# Altium schematic symbol library IC-Cmedia.SchLib: 2 symbols
Pins are listed as number, name and electrical type; pins without a type are passive.

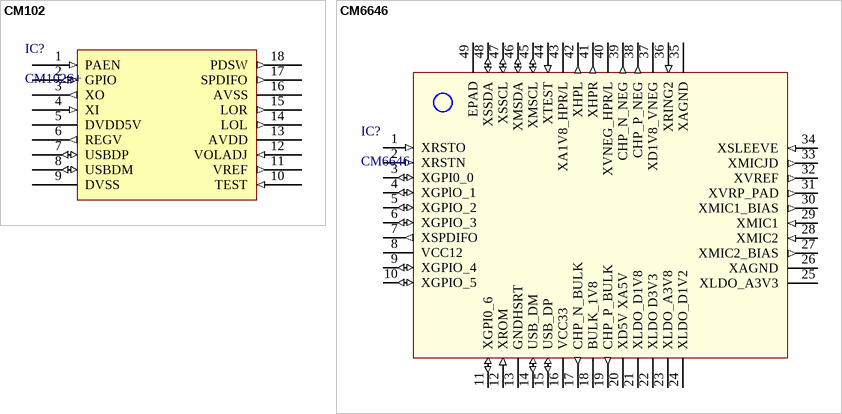
[diagram p0: symbols CM102 to CM6646]

## CM102
designator IC?, comment CM102S+
USB声卡芯片; Manufacturer_Name: Cmedia; Manufacturer_Part_Number: CM102S+; ComponentLink1Description: TAOBAO; ComponentLink1URL: https://item.taobao.com/item.htm?spm=a1z10.5-c-s.w4002-18550259408.55.145a5374dSFLyY&id=559107544758; ComponentLink2Description: PDF; ComponentLink2URL: https://www.cmedia.com.tw/storage/upload/ck_files/en_article_file_20201223165802_ekq%20(1)(1).pdf
footprint SOP18W
pins: 1 PAEN (in), 2 GPIO (io) "Power Amplifier Control Input, Connect to a Switch or Pull-High in", 3 XO (out), 4 XI (in), 5 DVDD5V (power), 6 REGV (out) "egulator output 3.3v", 7 USBDP (io), 8 USBDM (io), 9 DVSS (power), 10 TEST (in), 11 VREF (out), 12 VOLADJ (in), 13 AVDD (power), 14 LOL (out), 15 LOR (out), 16 AVSS (power), 17 SPDIFO (out), 18 PDSW (out)

## CM6646
designator IC?
USB声卡芯片; Manufacturer_Name: Cmedia; Manufacturer_Part_Number: CM6646; Manufacturer_Part_Number_1: *
footprint QFN48_5X5_0.35MM (10+12+10+12 0.35间距)
pins: 1 XRSTO (in) "External codec reset output (default tri-state)", 2 XRSTN (in) "Reset input,active low", 3 XGPI0_0 (io) "1).General purpose input/output O(default input) / 2).LED module 1 output / 3).R8051 SPI master clock output,Internal pull low,4mA driving / current", 4 XGPlO_1 (io) "1).General purpose input/output 1 (default input) / 2).LED module 2 output / 3).R8051 SPI master data output,Internal pull low,4mA driving / current", 5 XGPIO_2 (io) "1).General purpose input/output 2(default input) / 2).LED module3 output / 3).R8051 SPI master data input,Internal pull low,4mA driving current", 6 XGPIO_3 (io) "1).General purpose input/output 3 (default input) / 2).LED module4 output / 3).R8051 SPI master chip enable O output,Internal pull low,4mA / driving current", 7 XSPDIFO (out) "S/PDIF transmitter", 8 VCC12 (power) "VCC1.2V input / Digital supply voltage 3.3V for digital core", 9 XGPIO_4 (io) "1).General purpose input/output 4 (default input) / 2).LED module5 output / 3).12C slave interrupt output to external MCU / Internal pull low,4mA driving current", 10 XGPIO_5 (io) "1).General purpose input/output 5(default input) / 2).LED module 6 output / 3).12C slave data ready indication output / Internal pull low,4mA driving current", 11 XGPI0_6 (io) "General purpose input/output 6 (default input) / Internal pull low,4mA driving current", 12 XROM (in) "Reserve for restore to ROM mode", 13 GNDHSRT (power) "Digital ground", 14 USB_DM (io) "USB 2.0 data negative", 15 USB_DP (io) "USB 2.0 data positive", 16 VCC33 (power) "VCC 3.3V input / Digital supply voltage 3.3V for digital I/0", 17 CHP_N_BULK (out) "Charge pump negative output of DC to DC", 18 BULK_1V8 (power) "DC to DC 1.8V output,40mA driving current;Connect to capacitor / filter", 19 CHP_P_BULK (out) "Charge pump positive output of DC to DC", 20 XD5V XA5V (power) "Digital/Analog supply power (4.3V-5V);Connect to capacitor filter", 21 XLDO_D1V8 (power) "LDO 1.8V output,20mA drivingcurrent;Connect to capacitor filter", 22 XLDO D3V3 (power) "LDO 3.3V output,30mA driving current;Connect to capacitor filter", 23 XLDO_A3V8 (power) "LDO 3.8V output,20mA driving current;Connect to capacitor filter", 24 XLDO_D1V2 (power) "LDO 1.2V output,10mA driving current;Connect to capacitor filter", 25 XLDO_A3V3 (power) "LDO 3.3V output,20mA driving current;Connect to capacitor filter", 26 XAGND (power) "Analog ground", 27 XMIC2_BIAS (out) "Microphone 2 bias volage output (~3.1V)", 28 XMIC2 (in) "Microphone 2 input", 29 XMIC1 (in) "Microphone 1 input", 30 XMIC1_BIAS (out) "Microphone 1 bias volage output (~3.1V)", 31 XVRP_PAD (out) "Voltage reference for DAC(~3.1V)", 32 XVREF (out) "Voltage reference for common mode voltage (~1.5V)", 33 XMICJD (out) "Combo jack detect and auto switch,detect combo jack type and / switch to XRING2 or XSLEEVE", 34 XSLEEVE (in) "Combo jack connectoe:Sleeve", 35 XAGND (power) "Analog ground", 36 XRING2 (in) "Combo jack connector:Ring2", 37 XD1V8_VNEG (power) "DC to DC 1.8V input / Input power of negative charge pump;Connect to capacitor filter", 38 CHP_P_NEG (out) "Charge pump positive output of high negative DC to DC", 39 CHP_N_NEG (out) "Charge pump negative output of high negative DC to DC", 40 XVNEG_HPR/L (power) "DC to DC-1.8V output,10mA driving current ;Connect to capacitor / filter", 41 XHPR (out) "Headphone driver output R CH", 42 XHPL (out) "Headphone driver output L CH", 43 XA1V8_HPR/L (power) "Analog 1.8V input / Positive Power of headphone driver R/L CH;Connect to capacitor / filter", 44 XTEST (in) "Test mode input (Connect to Ground)", 45 XMSCL (io) "1).12C master serial clock / 2).R805112C serial clock", 46 XMSDA (io) "1).12C master serial data / 2).R805112C serial data", 47 XSSCL (io) "1).12C slave serial clock / 2).R805112C serial clock (This function is disabled,if R805112C is / connected to XMSCL and XMSDA)", 48 XSSDA (io) "1).12C slave serial data / 2).R805112C serial data (This function is disabled,if R805112C is / connected to XMSCL and XMSDA)", 49 EPAD